# EAGLE library part 9_PINES (library Eagle_CAD_parts)
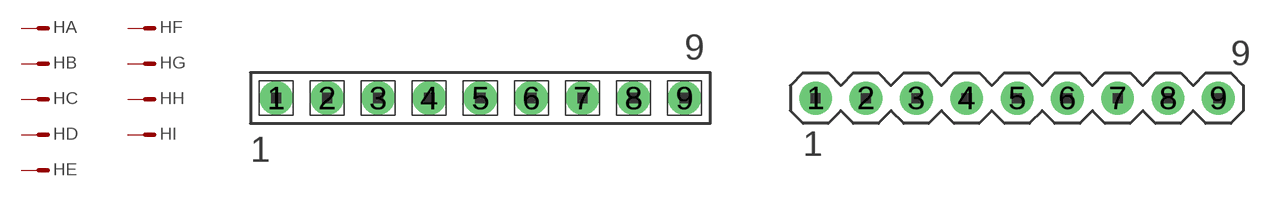
[diagram p72: symbol with the pads of 9_PINES_F; footprints 9_PINES_F, 9_PINES]

Designator prefix H; gates A=PIN_1 B=PIN_1 C=PIN_1 D=PIN_1 E=PIN_1 F=PIN_1 G=PIN_1 H=PIN_1 I=PIN_1

## 9_PINES_SCS_F (DIGIKEY_PART_NUMBER: S7042-ND; I: 3 A; MANUFACTURER_PART_NUMBER: PPPC091LFBN-RC; V: 250 V)  [9_PINES_F]
1  A:S  pas
2  B:S  pas
3  C:S  pas
4  D:S  pas
5  E:S  pas
6  F:S  pas
7  G:S  pas
8  H:S  pas
9  I:S  pas

## 9_PINES_WR-PHD (DIGIKEY_PART_NUMBER: 732-5322-ND; I: 3 A; MANUFACTURER_PART_NUMBER: 61300911121; V: 250 V)  [9_PINES]
Pads as for 9_PINES_F

## Footprint 9_PINES_F (pad centres in mm)
drill 1.1: 1 -10.16,0; 2 -7.62,0; 3 -5.08,0; 4 -2.54,0; 5 0,0; 6 2.54,0; 7 5.08,0; 8 7.62,0; 9 10.16,0

## Footprint 9_PINES (pad centres in mm)
drill 1.1: 1 -10.16,0; 2 -7.62,0; 3 -5.08,0; 4 -2.54,0; 5 0,0; 6 2.54,0; 7 5.08,0; 8 7.62,0; 9 10.16,0